# EAGLE library part TINY6410 (library robotter_others)
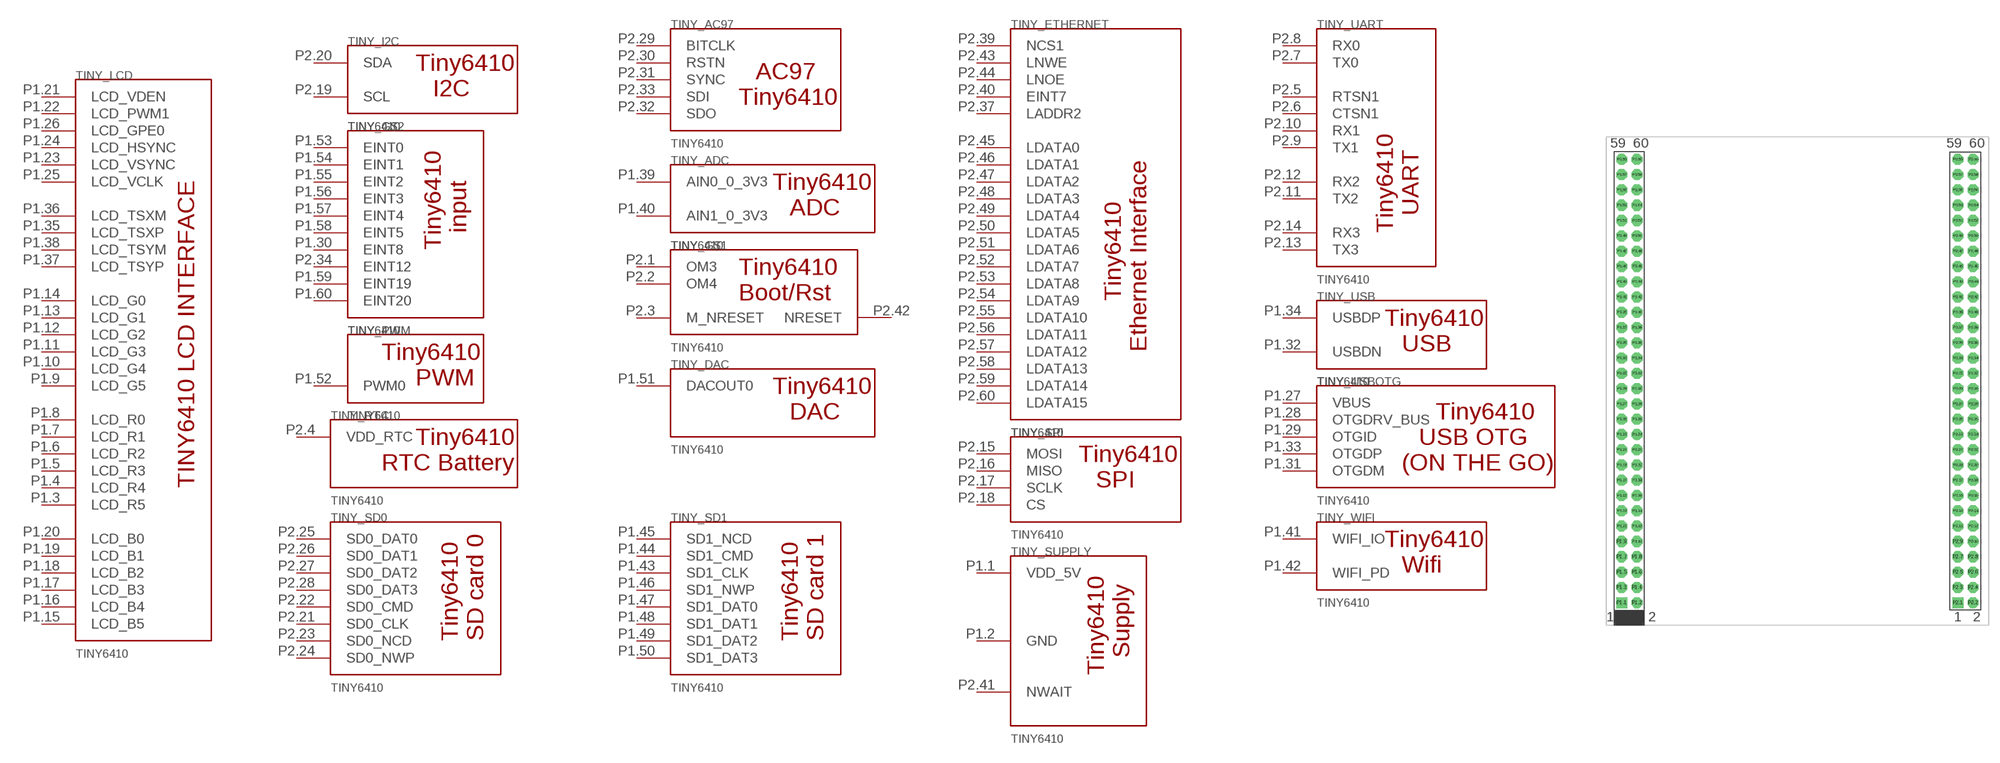
[diagram p0: symbol with the pads of TINY6410; footprint TINY6410]

Designator prefix TINY_; gates AC97=TINY6410_AC97 ADC=TINY6410_ADC ETHERNET=TINY6410_EHTERNET_INTERFACE I2C=TINY6410_I2C PWM=TINY6410_PWM RTC=TINY6410_RTCBAT SD0=TINY6410_SDCARD0 SPI=TINY6410_SPI SUPPLY=TINY6410_SUPPLY UART=TINY6410_UART USB=TINY6410_USB USBOTG=TINY6410_USBOTG WIFI=TINY6410_WIFI DAC=TINY6410_DAC LCD=TINY6410_LCD SD1=TINY6410_SDCARD1 G$1=TINY6410_BOOT G$2=TINY6410_INPUT

## TINY6410  [TINY6410]
P1.1  SUPPLY:VDD_5V
P1.2  SUPPLY:GND
P1.3  LCD:LCD_R5
P1.4  LCD:LCD_R4
P1.5  LCD:LCD_R3
P1.6  LCD:LCD_R2
P1.7  LCD:LCD_R1
P1.8  LCD:LCD_R0
P1.9  LCD:LCD_G5
P1.10  LCD:LCD_G4
P1.11  LCD:LCD_G3
P1.12  LCD:LCD_G2
P1.13  LCD:LCD_G1
P1.14  LCD:LCD_G0
P1.15  LCD:LCD_B5
P1.16  LCD:LCD_B4
P1.17  LCD:LCD_B3
P1.18  LCD:LCD_B2
P1.19  LCD:LCD_B1
P1.20  LCD:LCD_B0
P1.21  LCD:LCD_VDEN
P1.22  LCD:LCD_PWM1
P1.23  LCD:LCD_VSYNC
P1.24  LCD:LCD_HSYNC
P1.25  LCD:LCD_VCLK
P1.26  LCD:LCD_GPE0
P1.27  USBOTG:VBUS
P1.28  USBOTG:OTGDRV_BUS
P1.29  USBOTG:OTGID
P1.30  G$2:EINT8
P1.31  USBOTG:OTGDM
P1.32  USB:USBDN
P1.33  USBOTG:OTGDP
P1.34  USB:USBDP
P1.35  LCD:LCD_TSXP
P1.36  LCD:LCD_TSXM
P1.37  LCD:LCD_TSYP
P1.38  LCD:LCD_TSYM
P1.39  ADC:AIN0_0_3V3
P1.40  ADC:AIN1_0_3V3
P1.41  WIFI:WIFI_IO
P1.42  WIFI:WIFI_PD
P1.43  SD1:SD1_CLK
P1.44  SD1:SD1_CMD
P1.45  SD1:SD1_NCD
P1.46  SD1:SD1_NWP
P1.47  SD1:SD1_DAT0
P1.48  SD1:SD1_DAT1
P1.49  SD1:SD1_DAT2
P1.50  SD1:SD1_DAT3
P1.51  DAC:DACOUT0
P1.52  PWM:PWM0
P1.53  G$2:EINT0
P1.54  G$2:EINT1
P1.55  G$2:EINT2
P1.56  G$2:EINT3
P1.57  G$2:EINT4
P1.58  G$2:EINT5
P1.59  G$2:EINT19
P1.60  G$2:EINT20
P2.1  G$1:OM3
P2.2  G$1:OM4
P2.3  G$1:M_NRESET
P2.4  RTC:VDD_RTC
P2.5  UART:RTSN1
P2.6  UART:CTSN1
P2.7  UART:TX0
P2.8  UART:RX0
P2.9  UART:TX1
P2.10  UART:RX1
P2.11  UART:TX2
P2.12  UART:RX2
P2.13  UART:TX3
P2.14  UART:RX3
P2.15  SPI:MOSI
P2.16  SPI:MISO
P2.17  SPI:SCLK
P2.18  SPI:CS
P2.19  I2C:SCL
P2.20  I2C:SDA
P2.21  SD0:SD0_CLK
P2.22  SD0:SD0_CMD
P2.23  SD0:SD0_NCD
P2.24  SD0:SD0_NWP
P2.25  SD0:SD0_DAT0
P2.26  SD0:SD0_DAT1
P2.27  SD0:SD0_DAT2
P2.28  SD0:SD0_DAT3
P2.29  AC97:BITCLK
P2.30  AC97:RSTN
P2.31  AC97:SYNC
P2.32  AC97:SDO
P2.33  AC97:SDI
P2.34  G$2:EINT12
P2.37  ETHERNET:LADDR2
P2.39  ETHERNET:NCS1
P2.40  ETHERNET:EINT7
P2.41  SUPPLY:NWAIT
P2.42  G$1:NRESET
P2.43  ETHERNET:LNWE
P2.44  ETHERNET:LNOE
P2.45  ETHERNET:LDATA0
P2.46  ETHERNET:LDATA1
P2.47  ETHERNET:LDATA2
P2.48  ETHERNET:LDATA3
P2.49  ETHERNET:LDATA4
P2.50  ETHERNET:LDATA5
P2.51  ETHERNET:LDATA6
P2.52  ETHERNET:LDATA7
P2.53  ETHERNET:LDATA8
P2.54  ETHERNET:LDATA9
P2.55  ETHERNET:LDATA10
P2.56  ETHERNET:LDATA11
P2.57  ETHERNET:LDATA12
P2.58  ETHERNET:LDATA13
P2.59  ETHERNET:LDATA14
P2.60  ETHERNET:LDATA15

## Footprint TINY6410 (pad centres in mm)
drill 0.9 pad 1.422 square: P1.1 -23,-29; P2.1 21,-29
drill 0.9 pad 1.422 octagon: P1.2 -21,-29; P1.3 -23,-27; P1.4 -21,-27; P1.5 -23,-25; P1.6 -21,-25; P1.7 -23,-23; P1.8 -21,-23; P1.9 -23,-21; P1.10 -21,-21; P1.11 -23,-19; P1.12 -21,-19; P1.13 -23,-17; P1.14 -21,-17; P1.15 -23,-15; P1.16 -21,-15; P1.17 -23,-13; P1.18 -21,-13; P1.19 -23,-11; P1.20 -21,-11; P1.21 -23,-9; P1.22 -21,-9; P1.23 -23,-7; P1.24 -21,-7; P1.25 -23,-5; P1.26 -21,-5; P1.27 -23,-3; P1.28 -21,-3; P1.29 -23,-1; P1.30 -21,-1; P1.31 -23,1; P1.32 -21,1; P1.33 -23,3; P1.34 -21,3; P1.35 -23,5; P1.36 -21,5; P1.37 -23,7; P1.38 -21,7; P1.39 -23,9; P1.40 -21,9; P1.41 -23,11; P1.42 -21,11; P1.43 -23,13; P1.44 -21,13; P1.45 -23,15; P1.46 -21,15; P1.47 -23,17; P1.48 -21,17; P1.49 -23,19; P1.50 -21,19; P1.51 -23,21; P1.52 -21,21; P1.53 -23,23; P1.54 -21,23; P1.55 -23,25; P1.56 -21,25; P1.57 -23,27; P1.58 -21,27; P1.59 -23,29; P1.60 -21,29; P2.2 23,-29; P2.3 21,-27; P2.4 23,-27; P2.5 21,-25; P2.6 23,-25; P2.7 21,-23; P2.8 23,-23; P2.9 21,-21; P2.10 23,-21; P2.11 21,-19; P2.12 23,-19; P2.13 21,-17; P2.14 23,-17; P2.15 21,-15; P2.16 23,-15; P2.17 21,-13; P2.18 23,-13; P2.19 21,-11; P2.20 23,-11; P2.21 21,-9; P2.22 23,-9; P2.23 21,-7; P2.24 23,-7; P2.25 21,-5; P2.26 23,-5; P2.27 21,-3; P2.28 23,-3; P2.29 21,-1; P2.30 23,-1; P2.31 21,1; P2.32 23,1; P2.33 21,3; P2.34 23,3; P2.35 21,5; P2.36 23,5; P2.37 21,7; P2.38 23,7; P2.39 21,9; P2.40 23,9; P2.41 21,11; P2.42 23,11; P2.43 21,13; P2.44 23,13; P2.45 21,15; P2.46 23,15; P2.47 21,17; P2.48 23,17; P2.49 21,19; P2.50 23,19; P2.51 21,21; P2.52 23,21; P2.53 21,23; P2.54 23,23; P2.55 21,25; P2.56 23,25; P2.57 21,27; P2.58 23,27; P2.59 21,29; P2.60 23,29